# Altium footprint library do-214ab.PcbLib: 1 footprints
Each footprint in its own frame and in the unit in brackets; x right, y up, seen from the top. Pads: shape width x height; smd on the part's side, far side on the other; paste and mask are expansions set on the pad; w line width, h text height; cw(c..) or ccw(c..) is an arc to the next point about the centre after c.
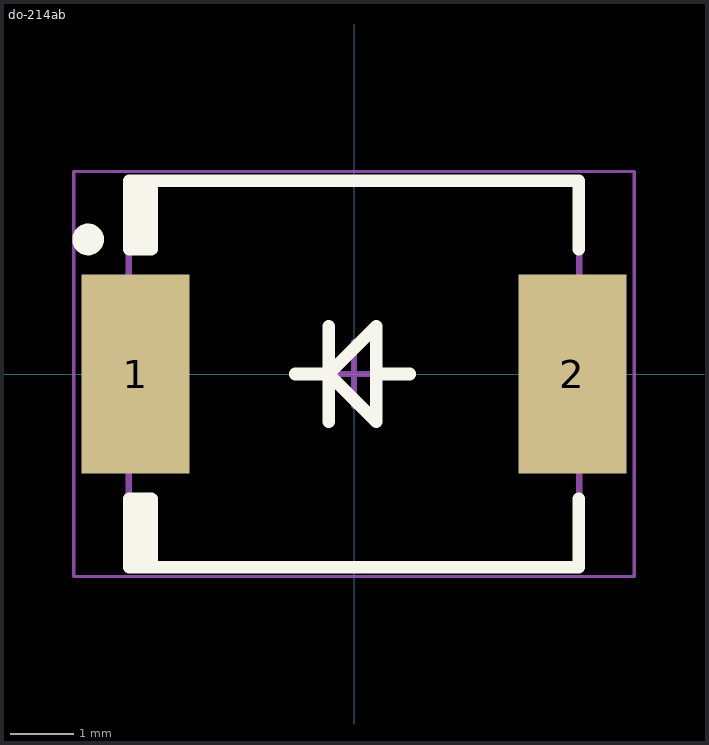
[diagram p0: the footprint, top view; thin cyan lines are the x and y axes]

## do-214ab [mm] "DO-214AB, SMC"
height 2.41
pads (2):
  rect 1.7x3.15 smd: 1(-3.45,0) 2(3.45,0)
Top Overlay:
  circle w0.25: c-4.2,2.125 r0.125
  region: -3.55,1.975
  region: -3.55,1.875 -3.2,1.875 -3.18,1.875 -3.143,1.89 -3.115,1.918 -3.1,1.955 -3.1,1.975 -3.1,3.05 -3.55,3.05
  region: -3.55,-1.875 -3.2,-1.875 -3.18,-1.875 -3.143,-1.89 -3.115,-1.918 -3.1,-1.955 -3.1,-1.975 -3.1,-3.05 -3.55,-3.05
  lines w0.2: -3.55,-1.975 -3.55,-3.05 3.55,-3.05 3.55,-1.975 ; -3.55,1.975 -3.55,3.05 3.55,3.05 3.55,1.975 ; -0.93,0 -0.4,0 ; -0.4,-0.75 -0.4,0 ; -0.4,0.75 -0.4,0 ; 0.35,0 0.88,0 ; -0.4,0 0.35,0.75 0.35,-0.75 -0.4,0
Mechanical 13:
  lines w0.1: -3.555,-3.05 -3.555,3.05 3.555,3.05 3.555,-3.05 -3.555,-3.05
Mechanical 15:
  lines w0.05: -4.425,-3.2 -4.425,3.2 4.425,3.2 4.425,-3.2 -4.425,-3.2
  lines w0.1: -0.5,0 0.5,0 ; 0,-0.5 0,0.5
3D body: height 2.41, standoff 0, extent -3.555,-3.05 3.555,3.05